# Altium schematic symbol library INSOLTOR_LIB.SchLib: 1 symbol
Pins are listed as number, name and electrical type; pins without a type are passive.

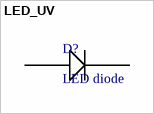
[diagram p0: symbol LED_UV]

## LED_UV
designator D?, comment LED diode
standar through hole led diode
footprint led_UV
pins: 0, 1